# Altium schematic symbol library Schlib1.SchLib: 1 symbol
Pins are listed as number, name and electrical type; pins without a type are passive.

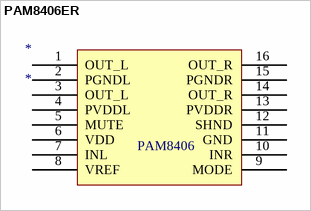
[diagram p0: symbol PAM8406ER]

## PAM8406ER
designator *
Amplifiers, Audio, 5W STEREO FILTERLESS CLASS-D AUDIO AMP | Diodes Inc PAM8406ER; Manufacturer: Diodes Inc.; LCSE Part Number: C5246118; Max Supply Voltage: 5.5V; Min Supply Voltage: 2.5V; Number of Channels: 2; Number of Circuits: 1; Power Supply Rejection Ratio (PSRR): 70dB; Voltage Gain: 24dB; Supplier: DigiKey; Supplier Part Number: 31-PAM8406ERCT-ND; Manufacturer Part Number: PAM8406ER; RoHS: Compliant; Category: Amplifiers - Audio; Stock: 1417; Pricing: 1=0.89, 10=0.637, 25=0.574, 100=0.5046, 250=0.47152, 500=0.45154, 1000=0.4351 (USD); Case/Package: SOP; China RoHS: Compliant; Height: 1.55mm; Length: 10mm; Lifecycle Status: Production; Max Operating Temperature: 85°C; Max Output Power: 5W; Min Operating Temperature: -40°C; Mounting Technology: Surface Mount; Pins: 16; Radiation Hardening: No; REACH SVHC: Yes; Schedule B: 8542330000; Width: 4mm; ComponentLink1URL: https://datasheet.octopart.com:443/PAM8406ER-Diodes-Inc.-datasheet-180558602.pdf?src-supplier=IHS; ComponentLink1Description: https://datasheet.octopart.com:443/PAM8406ER-Diodes-Inc.-datasheet-180558602.pdf?src-supplier=IHS; ComponentLink2URL: https://datasheet.octopart.com:443/PAM8406ER-Diodes-Inc.-datasheet-17559812.pdf?src-supplier=SHENGYU+ELECTRONICS; ComponentLink2Description: https://datasheet.octopart.com:443/PAM8406ER-Diodes-Inc.-datasheet-17559812.pdf?src-supplier=SHENGYU+ELECTRONICS; ComponentLink3URL: https://sigma.octopart.com:443/141421625/technical_drawing/Diodes-Inc.-PAM8406ER.pdf?src-supplier=Diodes+Inc+SCT; ComponentLink3Description: https://sigma.octopart.com:443/141421625/technical_drawing/Diodes-Inc.-PAM8406ER.pdf?src-supplier=Diodes+Inc+SCT
pins: 1 OUT_L, 2 PGNDL, 3 OUT_L, 4 PVDDL, 5 MUTE, 6 VDD, 7 INL, 8 VREF, 9 MODE, 10 INR, 11 GND, 12 SHND, 13 PVDDR, 14 OUT_R, 15 PGNDR, 16 OUT_R
text: PAM8406